# EAGLE library part MAX98357A (library nixiemisc)
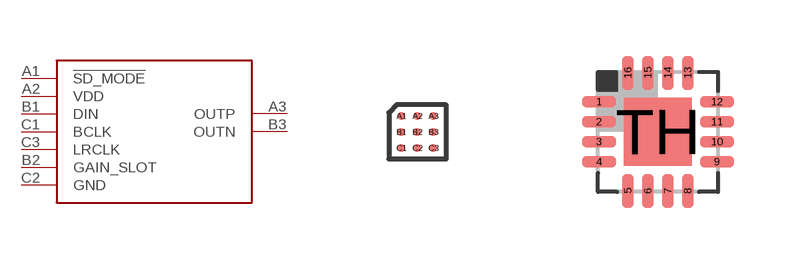
[diagram p24: symbol with the pads of MAX98357A; footprints MAX98357A, QFN16]

Designator prefix U

## MAX98357A  [MAX98357A]
A1  !SD_MODE
A2  VDD
A3  OUTP
B1  DIN
B2  GAIN_SLOT
B3  OUTN
C1  BCLK
C2  GND
C3  LRCLK

## MAX98357AQFN  [QFN16]
1  DIN
2  GAIN_SLOT
3  GND
4  !SD_MODE
7  VDD
8  VDD
9  OUTP
10  OUTN
11  GND
14  LRCLK
15  GND
16  BCLK
TH  GND

## Footprint MAX98357A (pad centres in mm)
smd 0.2 x 0.2: A1 -0.4,0.4; A2 0,0.4; A3 0.4,0.4; B1 -0.4,0; B2 0,0; B3 0.4,0; C1 -0.4,-0.4; C2 0,-0.4; C3 0.4,-0.4

## Footprint QFN16 (pad centres in mm)
RTE (S-PQFP-N16) 3x3 mm Source: www.ti.com .. tpa6132a2 direct path stereo $.65.pdf
smd 0.85 x 0.28: 1 -1.475,0.75; 2 -1.475,0.25; 3 -1.475,-0.25; 4 -1.475,-0.75; 9 1.475,-0.75; 10 1.475,-0.25; 11 1.475,0.25; 12 1.475,0.75
smd 0.28 x 0.85: 5 -0.75,-1.475; 6 -0.25,-1.475; 7 0.25,-1.475; 8 0.75,-1.475; 13 0.75,1.475; 14 0.25,1.475; 15 -0.25,1.475; 16 -0.75,1.475
smd 1.7 x 1.7: TH 0,0